# EAGLE library part MCP49*1 (library dac)
Digital-to-Analog Converter
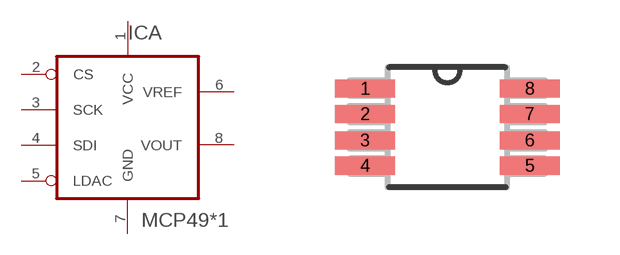
[diagram p1: symbol with the pads of MSOP-8; footprint MSOP-8]

Designator prefix IC; gates A=MCP4921-E/MS P=PWRGND

## MCP4921-E/MS  [MSOP-8]
1  P:VCC  pwr
2  A:CS  in
3  A:SCK  in
4  A:SDI  in
5  A:LDAC  in
6  A:VREF  in
7  P:GND  pwr
8  A:VOUT  out

## Footprint MSOP-8 (pad centres in mm)
smd 1.499 x 0.457: 1 -2.057,0.965; 2 -2.057,0.33; 3 -2.057,-0.33; 4 -2.057,-0.965; 5 2.057,-0.965; 6 2.057,-0.33; 7 2.057,0.33; 8 2.057,0.965